# Altium schematic symbol library Resistor.SchLib: 1 symbol
Pins are listed as number, name and electrical type; pins without a type are passive.

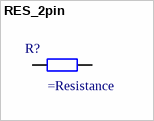
[diagram p0: symbol RES_2pin]

## RES_2pin
designator R?  (value not drawn)
=Description; Value: =Resistance
pins: 1, 2